# Altium footprint library PcbLib1.PcbLib: 4 footprints
Each footprint in its own frame and in the unit in brackets; x right, y up, seen from the top. Pads: shape width x height; smd on the part's side, far side on the other; paste and mask are expansions set on the pad; w line width, h text height; cw(c..) or ccw(c..) is an arc to the next point about the centre after c.
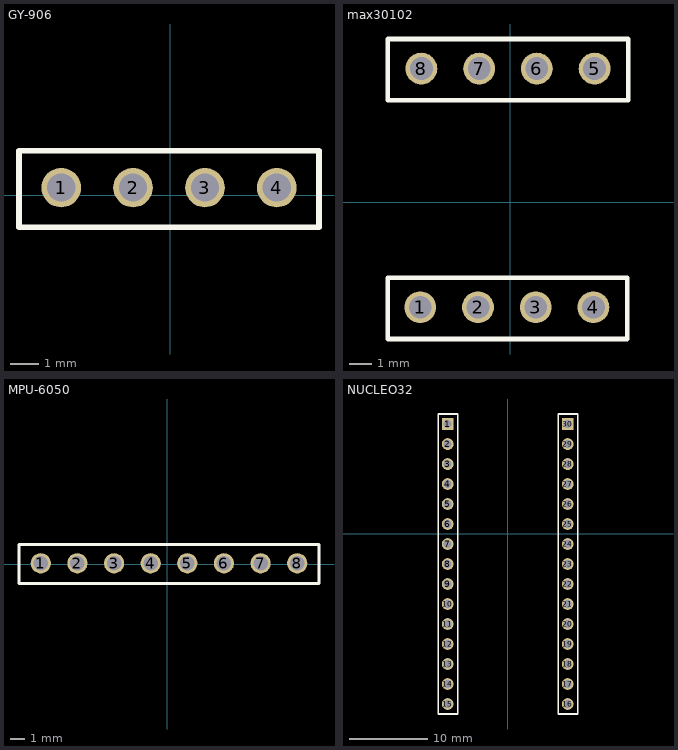
[diagram p0: the footprints below, top view; thin cyan lines are the x and y axes]

## GY-906 [mm]
pads (4):
  round 1.4 hole 1 mask+0.1: 1(-3.861,0.275) 2(-1.321,0.275) 3(1.219,0.275) 4(3.759,0.275)
Top Overlay:
  lines w0.2: -5.351,-1.125 5.249,-1.125 5.249,1.575 -5.351,1.575 -5.351,-1.125
3D body "female_header_a-bl254-eg-g02d.stp": height 8.5, standoff -3.2, extent -5.256,-1.025 0.074,1.475
3D body "female_header_a-bl254-eg-g02d.stp": height 8.5, standoff -3.2, extent -0.176,-1.025 5.154,1.475

## max30102 [mm]
pads (8):
  round 1.4 hole 1 mask+0.1: 1(-3.961,-4.625) 2(-1.421,-4.625) 3(1.119,-4.625) 4(3.659,-4.625) 5(3.709,5.875) 6(1.169,5.875) 7(-1.371,5.875) 8(-3.911,5.875)
Top Overlay:
  lines w0.2: -5.401,4.475 5.199,4.475 5.199,7.175 -5.401,7.175 -5.401,4.475 ; -5.4,-6.025 5.149,-6.025 5.149,-3.325 -5.4,-3.325 -5.4,-6.025
3D body "female_header_a-bl254-eg-g02d.stp": height 8.5, standoff -3.2, extent -0.226,4.575 5.104,7.075
3D body "female_header_a-bl254-eg-g02d.stp": height 8.5, standoff -3.2, extent -5.306,4.575 0.024,7.075
3D body "female_header_a-bl254-eg-g02d.stp": height 8.5, standoff -3.2, extent -0.276,-5.925 5.054,-3.425
3D body "female_header_a-bl254-eg-g02d.stp": height 8.5, standoff -3.2, extent -5.356,-5.925 -0.026,-3.425

## MPU-6050 [mm]
pads (8):
  round 1.4 hole 1 mask+0.1: 1(-8.776,0.079) 2(-6.236,0.079) 3(-3.696,0.079) 4(-1.156,0.079) 5(1.384,0.079) 6(3.924,0.079) 7(6.464,0.079) 8(9.004,0.079)
Top Overlay:
  lines w0.2: -10.286,-1.321 -10.286,1.379 10.514,1.379 10.514,-1.321 -10.286,-1.321
3D body "female_header_a-bl254-eg-g02d.stp": height 8.5, standoff -3.2, extent 5.069,-1.221 10.399,1.279
3D body "female_header_a-bl254-eg-g03d.stp": height 8.5, standoff -3.2, extent -10.171,-1.221 -2.301,1.279
3D body "female_header_a-bl254-eg-g03d.stp": height 8.5, standoff -3.2, extent -2.551,-1.221 5.319,1.279

## NUCLEO32 [mm]
pads (30):
  rect 1.5x1.5 hole 1.02: 1(-7.652,13.949) 30(7.588,13.949)
  round 1.5 hole 1.02: 2(-7.652,11.409) 3(-7.652,8.869) 4(-7.652,6.329) 5(-7.652,3.789) 6(-7.652,1.249) 7(-7.652,-1.291) 8(-7.652,-3.831) 9(-7.652,-6.371) 10(-7.652,-8.911) 11(-7.652,-11.451) 12(-7.652,-13.991) 13(-7.652,-16.531) 14(-7.652,-19.071) 15(-7.652,-21.611) 16(7.588,-21.611) 17(7.588,-19.071) 18(7.588,-16.531) 19(7.588,-13.991) 20(7.588,-11.451) 21(7.588,-8.911) 22(7.588,-6.371) 23(7.588,-3.831) 24(7.588,-1.291) 25(7.588,1.249) 26(7.588,3.789) 27(7.588,6.329) 28(7.588,8.869) 29(7.588,11.409)
Top Overlay:
  lines w0.2: -8.846,-22.881 -6.382,-22.881 -6.382,15.225 -8.846,15.225 -8.846,-22.881 ; 6.394,-22.881 8.858,-22.881 8.858,15.225 6.394,15.225 6.394,-22.881
3D body "MB1180.step": height 10.57, standoff -5.82, extent -9.347,-28.08 9.195,23.927